# Altium schematic symbol library StandardCapacitors.SchLib: 16 symbols
Pins are listed as number, name and electrical type; pins without a type are passive.

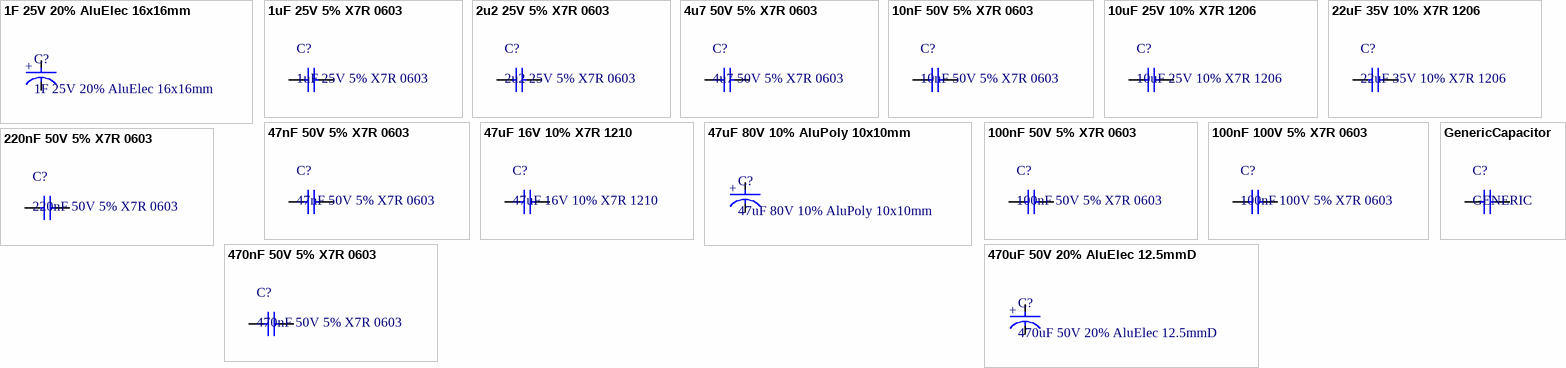
[diagram p0: symbols 1F 25V 20% AluElec 16x16mm to GenericCapacitor]

## 1F 25V 20% AluElec 16x16mm
designator C?
Capacitor, AluElec, SMD, 1F, 25V, 20%, AluElec, 16x16mm
footprint CAP_ALU_16x16mm
pins: A, K
text: +

## 1uF 25V 5% X7R 0603
designator C?
Capacitor, Ceramic, SMD, 1uF, 25V, 5%, X7R, 0603
footprint Cap_Ceramic_0603
pins: 1, 2

## 2u2 25V 5% X7R 0603
designator C?
Capacitor, Ceramic, SMD, 2u2, 25V, 5%, X7R, 0603
footprint Cap_Ceramic_0603
pins: 1, 2

## 4u7 50V 5% X7R 0603
designator C?
Capacitor, Ceramic, SMD, 4u7, 50V, 5%, X7R, 0603
footprint Cap_Ceramic_0603
pins: 1, 2

## 10nF 50V 5% X7R 0603
designator C?
Capacitor, Ceramic, SMD, 10nF, 50V, 5%, X7R, 0603
footprint Cap_Ceramic_0603
pins: 1, 2

## 10uF 25V 10% X7R 1206
designator C?
Capacitor, Ceramic, SMD, 10uF, 25V, 10%, X7R, 1206
footprint Cap_Ceramic_1206
pins: 1, 2

## 22uF 35V 10% X7R 1206
designator C?
Capacitor, Ceramic, SMD, 22uF, 35V, 10%, X7R, 1206
footprint Cap_Ceramic_1206
pins: 1, 2

## 47nF 50V 5% X7R 0603
designator C?
Capacitor, Ceramic, SMD, 47nF, 50V, 5%, X7R, 0603
footprint Cap_Ceramic_0603
pins: 1, 2

## 47uF 16V 10% X7R 1210
designator C?
Capacitor, Ceramic, SMD, 47uF, 16V, 5%, X7R, 1210
footprint Cap_Ceramic_1210
pins: 1, 2

## 47uF 80V 10% AluPoly 10x10mm
designator C?
Capacitor, AluPoly, SMD, 47uF, 80V, 10%, AluPoly, 10x10mm
footprint CAP_ALU_10x10mm
pins: A, K
text: +

## 100nF 50V 5% X7R 0603
designator C?
Capacitor, Ceramic, SMD, 100nF, 50V, 5%, X7R, 0603
footprint Cap_Ceramic_0603
pins: 1, 2

## 100nF 100V 5% X7R 0603
designator C?
Capacitor, Ceramic, SMD, 100nF, 100V, 5%, X7R, 0603
footprint Cap_Ceramic_0603
pins: 1, 2

## 220nF 50V 5% X7R 0603
designator C?
Capacitor, Ceramic, SMD, 220nF, 50V, 5%, X7R, 0603
footprint Cap_Ceramic_0603
pins: 1, 2

## 470nF 50V 5% X7R 0603
designator C?
Capacitor, Ceramic, SMD, 470nF, 50V, 5%, X7R, 0603
footprint Cap_Ceramic_0603
pins: 1, 2

## 470uF 50V 20% AluElec 12.5mmD
designator C?
Capacitor, AluElec, SMD, 470F, 50V, 20%, AluElec, 12.5mmD
footprint CAL_ALU_12.5mmD_20mmL
pins: A, K
text: +

## GenericCapacitor
designator C?, comment GENERIC
footprint Cap_Ceramic_0603
footprint Cap_Ceramic_0805
footprint Cap_Ceramic_1206
footprint Cap_Ceramic_1210
footprint Cap_Ceramic_1812
footprint Cap_Ceramic_1825
pins: 1, 2